# EAGLE library part LTC3789EUFD#TRPBF (library LTC3789EUFD#TRPBF)
Switching Voltage Regulators High Efficiency, Synchronous, 4-Switch Buck-Boost Controller Source: Datasheet <https://datasheet.datasheetarchive.com/originals/distributors/Datasheets-SFU4/DSASF4000-3463.pdf>
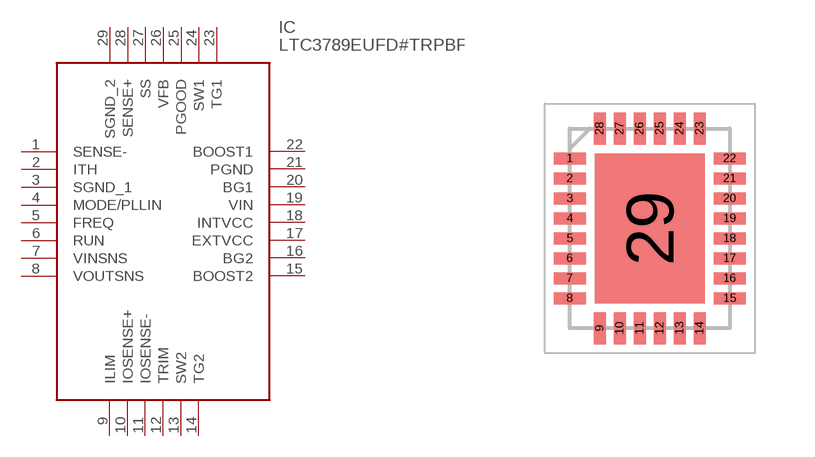
[diagram p0: symbol with the pads of QFN50P400X500X80-29N; footprint QFN50P400X500X80-29N]

Designator prefix IC

## LTC3789EUFD#TRPBF (Description: Switching Voltage Regulators High Efficiency, Synchronous, 4-Switch Buck-Boost Controller; Height: 0.8mm; Manufacturer_Name: Analog Devices; Manufacturer_Part_Number: LTC3789EUFD#TRPBF; Mouser_Part_Number: 584-LTC3789EUFDTRPBF; Mouser_Price-Stock: https://www.mouser.co.uk/ProductDetail/Analog-Devices-Linear-Technology/LTC3789EUFDTRPBF?qs=hVkxg5c3xu9SnagP15eVeg%3D%3D)  [QFN50P400X500X80-29N]
1  SENSE-
2  ITH
3  SGND_1
4  MODE/PLLIN
5  FREQ
6  RUN
7  VINSNS
8  VOUTSNS
9  ILIM
10  IOSENSE+
11  IOSENSE-
12  TRIM
13  SW2
14  TG2
15  BOOST2
16  BG2
17  EXTVCC
18  INTVCC
19  VIN
20  BG1
21  PGND
22  BOOST1
23  TG1
24  SW1
25  PGOOD
26  VFB
27  SS
28  SENSE+
29  SGND_2

## Footprint QFN50P400X500X80-29N (pad centres in mm)
28-Lead Plastic QFN (4mm × 5mm)_a
smd 0.8 x 0.3: 1 -2,1.75; 2 -2,1.25; 3 -2,0.75; 4 -2,0.25; 5 -2,-0.25; 6 -2,-0.75; 7 -2,-1.25; 8 -2,-1.75; 15 2,-1.75; 16 2,-1.25; 17 2,-0.75; 18 2,-0.25; 19 2,0.25; 20 2,0.75; 21 2,1.25; 22 2,1.75
smd 0.3 x 0.8: 9 -1.25,-2.5; 10 -0.75,-2.5; 11 -0.25,-2.5; 12 0.25,-2.5; 13 0.75,-2.5; 14 1.25,-2.5; 23 1.25,2.5; 24 0.75,2.5; 25 0.25,2.5; 26 -0.25,2.5; 27 -0.75,2.5; 28 -1.25,2.5
smd 2.75 x 3.75: 29 0,0